# EAGLE library part DSPIC33EPXXMC206 (library icnh3)
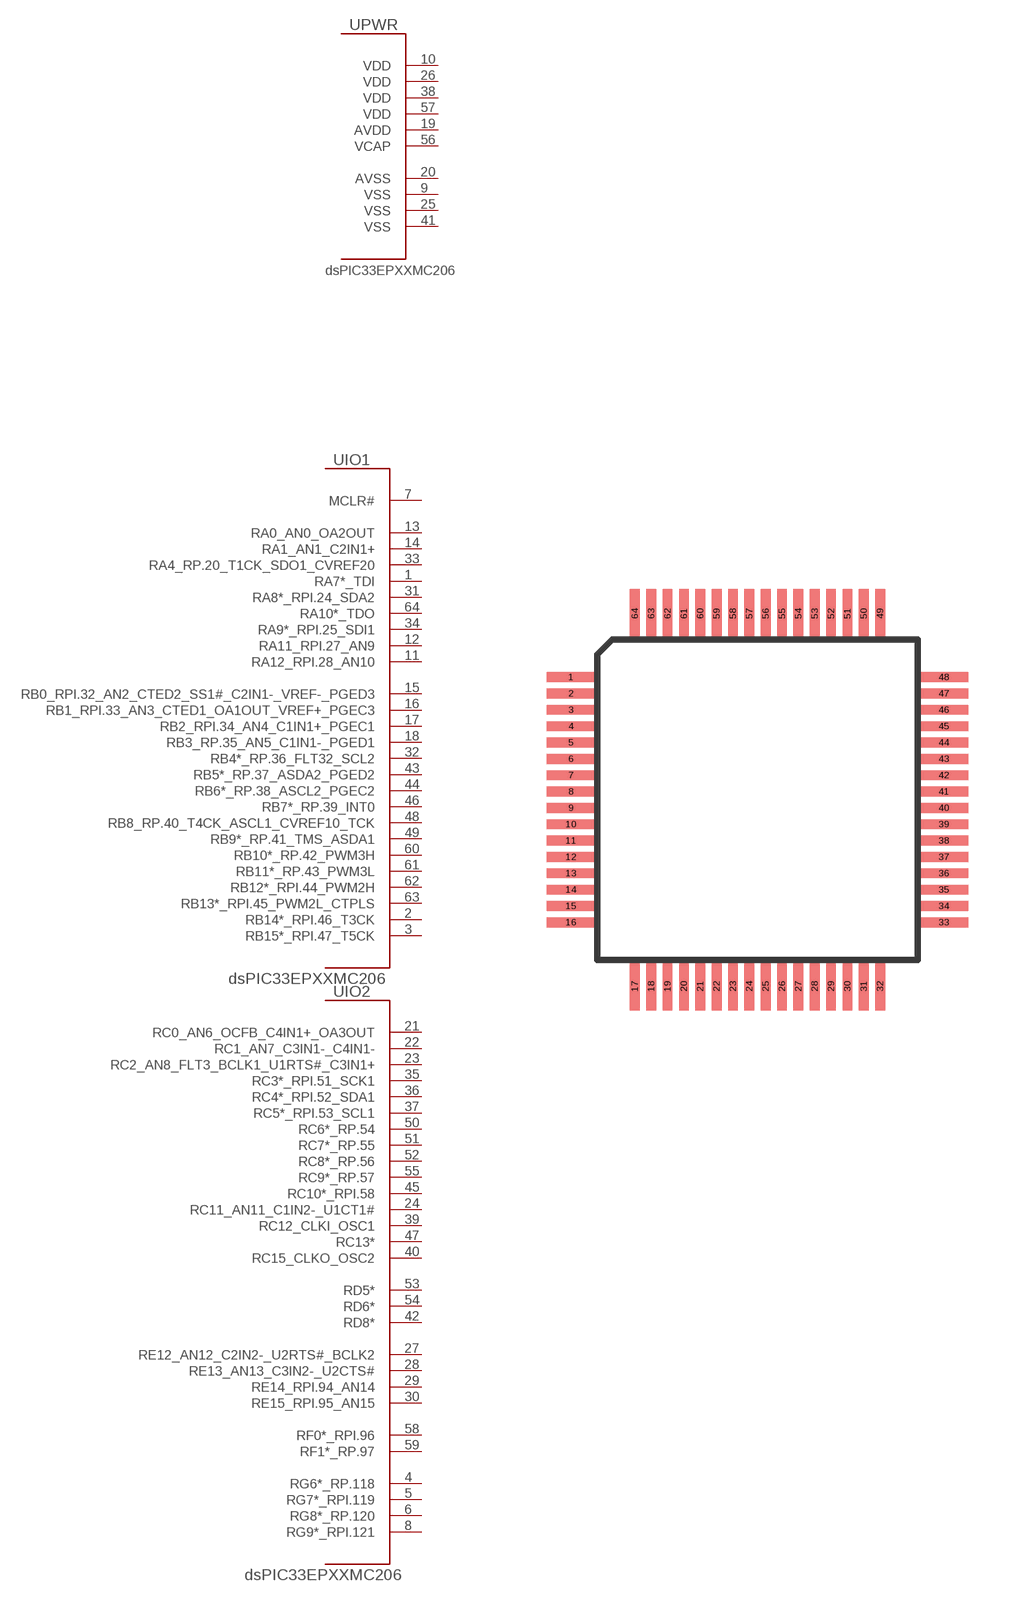
[diagram p1: symbol with the pads of TQFP64; footprint TQFP64]

Designator prefix U; gates PWR=MCU_MC206_PWR IO1=MCU_MC206_SIG_AB IO2=MCU_MC206_SIG_CDEF

## DSPIC33EPXXMC206  [TQFP64]
1  IO1:RA7*_TDI
2  IO1:RB14*_RPI.46_T3CK
3  IO1:RB15*_RPI.47_T5CK
4  IO2:RG6*_RP.118
5  IO2:RG7*_RPI.119
6  IO2:RG8*_RP.120
7  IO1:MCLR#
8  IO2:RG9*_RPI.121
9  PWR:VSS
10  PWR:VDD
11  IO1:RA12_RPI.28_AN10
12  IO1:RA11_RPI.27_AN9
13  IO1:RA0_AN0_OA2OUT
14  IO1:RA1_AN1_C2IN1+
15  IO1:RB0_RPI.32_AN2_CTED2_SS1#_C2IN1-_VREF-_PGED3
16  IO1:RB1_RPI.33_AN3_CTED1_OA1OUT_VREF+_PGEC3
17  IO1:RB2_RPI.34_AN4_C1IN1+_PGEC1
18  IO1:RB3_RP.35_AN5_C1IN1-_PGED1
19  PWR:AVDD
20  PWR:AVSS
21  IO2:RC0_AN6_OCFB_C4IN1+_OA3OUT
22  IO2:RC1_AN7_C3IN1-_C4IN1-
23  IO2:RC2_AN8_FLT3_BCLK1_U1RTS#_C3IN1+
24  IO2:RC11_AN11_C1IN2-_U1CT1#
25  PWR:VSS
26  PWR:VDD
27  IO2:RE12_AN12_C2IN2-_U2RTS#_BCLK2
28  IO2:RE13_AN13_C3IN2-_U2CTS#
29  IO2:RE14_RPI.94_AN14
30  IO2:RE15_RPI.95_AN15
31  IO1:RA8*_RPI.24_SDA2
32  IO1:RB4*_RP.36_FLT32_SCL2
33  IO1:RA4_RP.20_T1CK_SDO1_CVREF20
34  IO1:RA9*_RPI.25_SDI1
35  IO2:RC3*_RPI.51_SCK1
36  IO2:RC4*_RPI.52_SDA1
37  IO2:RC5*_RPI.53_SCL1
38  PWR:VDD
39  IO2:RC12_CLKI_OSC1
40  IO2:RC15_CLKO_OSC2
41  PWR:VSS
42  IO2:RD8*
43  IO1:RB5*_RP.37_ASDA2_PGED2
44  IO1:RB6*_RP.38_ASCL2_PGEC2
45  IO2:RC10*_RPI.58
46  IO1:RB7*_RP.39_INT0
47  IO2:RC13*
48  IO1:RB8_RP.40_T4CK_ASCL1_CVREF10_TCK
49  IO1:RB9*_RP.41_TMS_ASDA1
50  IO2:RC6*_RP.54
51  IO2:RC7*_RP.55
52  IO2:RC8*_RP.56
53  IO2:RD5*
54  IO2:RD6*
55  IO2:RC9*_RP.57
56  PWR:VCAP
57  PWR:VDD
58  IO2:RF0*_RPI.96
59  IO2:RF1*_RP.97
60  IO1:RB10*_RP.42_PWM3H
61  IO1:RB11*_RP.43_PWM3L
62  IO1:RB12*_RPI.44_PWM2H
63  IO1:RB13*_RPI.45_PWM2L_CTPLS
64  IO1:RA10*_TDO

## Footprint TQFP64 (pad centres in mm)
smd 1.5 x 0.3: 1 -5.7,3.75; 2 -5.7,3.25; 3 -5.7,2.75; 4 -5.7,2.25; 5 -5.7,1.75; 6 -5.7,1.25; 7 -5.7,0.75; 8 -5.7,0.25; 9 -5.7,-0.25; 10 -5.7,-0.75; 11 -5.7,-1.25; 12 -5.7,-1.75; 13 -5.7,-2.25; 14 -5.7,-2.75; 15 -5.7,-3.25; 16 -5.7,-3.75; 33 5.7,-3.75; 34 5.7,-3.25; 35 5.7,-2.75; 36 5.7,-2.25; 37 5.7,-1.75; 38 5.7,-1.25; 39 5.7,-0.75; 40 5.7,-0.25; 41 5.7,0.25; 42 5.7,0.75; 43 5.7,1.25; 44 5.7,1.75; 45 5.7,2.25; 46 5.7,2.75; 47 5.7,3.25; 48 5.7,3.75
smd 0.3 x 1.5: 17 -3.75,-5.7; 18 -3.25,-5.7; 19 -2.75,-5.7; 20 -2.25,-5.7; 21 -1.75,-5.7; 22 -1.25,-5.7; 23 -0.75,-5.7; 24 -0.25,-5.7; 25 0.25,-5.7; 26 0.75,-5.7; 27 1.25,-5.7; 28 1.75,-5.7; 29 2.25,-5.7; 30 2.75,-5.7; 31 3.25,-5.7; 32 3.75,-5.7; 49 3.75,5.7; 50 3.25,5.7; 51 2.75,5.7; 52 2.25,5.7; 53 1.75,5.7; 54 1.25,5.7; 55 0.75,5.7; 56 0.25,5.7; 57 -0.25,5.7; 58 -0.75,5.7; 59 -1.25,5.7; 60 -1.75,5.7; 61 -2.25,5.7; 62 -2.75,5.7; 63 -3.25,5.7; 64 -3.75,5.7